# EAGLE library part TPS6306X (library m_vreg)
TPS6306x High Input Voltage, Buck-Boost Converter With 2-A Switch Current Features Input Voltage Range: 2.5 V to 12 V Efficiency: Up to 93% Output Current at 5 V (VIN<10 V): 2 A in Buck Mode Output Current at 5 V (VIN>4 V): 1.3 A in Boost Mode Automatic Transition Between Step Down and Boost Mode Typical Device Quiescent Current: < 30 μA Fixed and Adjustable Output Voltage Options from 2.5 V to 8 V Power-Save Mode for Improved Efficiency at Low Output Power Forced Fixed-Frequency Operation at 2.4 MHz and Synchronization Possible Power Good Output Buck-Boost Overlap ControlTM Load Disconnect During Shutdown Overtemperature Protection Overvoltage Protection Description The TPS6306x devices provide a power supply solution for products powered by either three-cell up to six-cell alkaline, NiCd or NiMH battery, or a one- cell or dual-cell Li-Ion or Li-polymer battery. Output currents can go as high as 2-A while using a dual-cell Li-Ion or Li-polymer battery, and discharge it down to 5 V or lower. The buck-boost converter is based on a fixed frequency, pulse-width-modulation (PWM) controller using synchronous rectification to obtain maximum efficiency. At low load currents, the converter enters power-save mode to maintain high efficiency over a wide load current range. The power- save mode can be disabled, forcing the converter to operate at a fixed switching frequency. The maximum average current in the switches is limited to a typical value of 2.25 A. The output voltage is programmable using an external resistor divider, or is fixed internally on the chip. The converter can be disabled to minimize battery drain. During shutdown, the load is disconnected from the battery. The devices are available in a 3 mm × 3 mm, 10-pin, WSON (DSC), PowerPADTM package. Information based on TI document SLVSA92B – DECEMBER 2011 – REVISED DECEMBER 2014 Added 2016-07-24
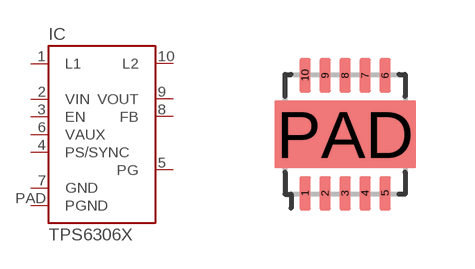
[diagram p10: symbol with the pads of S-PWSON-N10; footprint S-PWSON-N10]

Designator prefix IC

## TPS6306X (MANUF: TI; PARTNUM: TPS6306X; VALUE: TPS6306X)  [S-PWSON-N10]
1  L1  pas
2  VIN  pas
3  EN  pas
4  PS/SYNC  pas
5  PG  pas
6  VAUX  pas
7  GND  pas
8  FB  pas
9  VOUT  pas
10  L2  pas
PAD  PGND  pas

## Footprint S-PWSON-N10 (pad centres in mm)
10 Pin PWSON Package. 3.0mm x 3.0mm x 0.7mm Plastic Small Outline No-Lead, based on TI drawings 4207383/E 01/11, 4210391-5/Q 08/15, 4210390-5/K 08/15. Note: TI recommends 0.07mm solder mask clearance for this footprint. 5x 0.3mm diameter thermal vias recommended in thermal pad. Added 2016-07-20
smd 0.28 x 0.85: 1 -1,-1.475; 2 -0.5,-1.475; 3 0,-1.475; 4 0.5,-1.475; 5 1,-1.475; 6 1,1.475; 7 0.5,1.475; 8 0,1.475; 9 -0.5,1.475; 10 -1,1.475
smd 3.55 x 1.7: PAD 0,0